# Altium schematic symbol library MECF-40-01-X-DV-WT.SchLib: 1 symbol
Pins are listed as number, name and electrical type; pins without a type are passive.

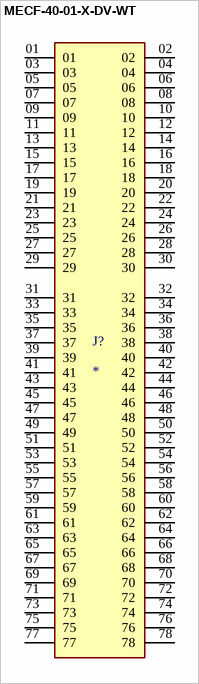
[diagram p0: symbol MECF-40-01-X-DV-WT]

## MECF-40-01-X-DV-WT
designator J?
MECF .050" EDGE CARD ASSEMBLY; MF: Samtec; MP: MECF-40-01-X-DV-WT; Price: None; Value: *; Availability: Unavailable; Package: None
footprint SAMTEC_MECF-40-01-X-DV-WT
pins: 01, 02, 03, 04, 05, 06, 07, 08, 09, 10, 11, 12, 13, 14, 15, 16, 17, 18, 19, 20, 21, 22, 23, 24, 25, 26, 27, 28, 29, 30, 31, 32, 33, 34, 35, 36, 37, 38, 39, 40, 41, 42, 43, 44, 45, 46, 47, 48, 49, 50, 51, 52, 53, 54, 55, 56, 57, 58, 59, 60, 61, 62, 63, 64, 65, 66, 67, 68, 69, 70, 71, 72, 73, 74, 75, 76, 77, 78